# Altium footprint library CASE-D.PcbLib: 1 footprints
Each footprint in its own frame and in the unit in brackets; x right, y up, seen from the top. Pads: shape width x height; smd on the part's side, far side on the other; paste and mask are expansions set on the pad; w line width, h text height; cw(c..) or ccw(c..) is an arc to the next point about the centre after c.
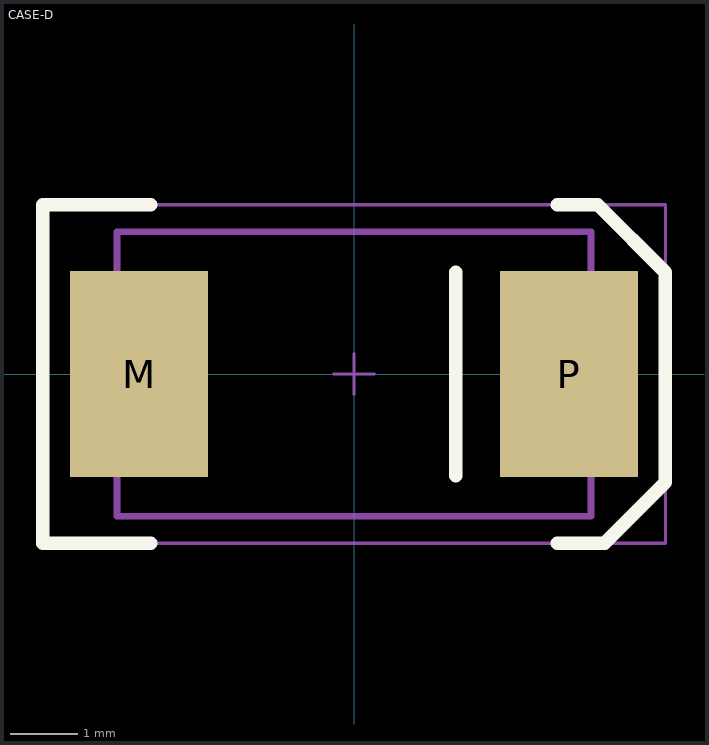
[diagram p0: the footprint, top view; thin cyan lines are the x and y axes]

## CASE-D [mil]
height 110.24
pads (2):
  rect 80x120 smd: M(-125,0) P(125,0)
TopOverlay:
  lines w7.87: -118.11,-98.43 -181.1,-98.43 -181.1,98.43 -118.11,98.43 ; 59.06,-59.06 59.06,59.06 ; 118.11,-98.43 145.67,-98.43 181.1,-62.99 181.1,59.06 141.73,98.43 118.11,98.43
Mechanical13:
  lines w3.94: -137.8,-47.24 -149.61,-47.24 -149.61,47.24 -137.8,47.24 ; 137.8,-47.24 149.61,-47.24 149.61,47.24 137.8,47.24 ; -137.8,-82.68 -137.8,82.68 137.8,82.68 137.8,-82.68 -137.8,-82.68
Mechanical15:
  lines w1.97: -11.81,0 11.81,0 ; 0,-11.81 0,11.81 ; -181.1,-98.43 181.1,-98.43 181.1,98.43 -181.1,98.43 -181.1,-98.43
3D body: height 62.99, standoff 0, extent -149.59,-47.22 -137.82,47.22
3D body: height 110.24, standoff 0, extent -137.78,-82.66 137.78,82.66
3D body: height 62.99, standoff 0, extent 137.82,-47.22 149.59,47.22